# Altium schematic symbol library Analog_DAC.SchLib: 156 symbols (part 2 of 2)
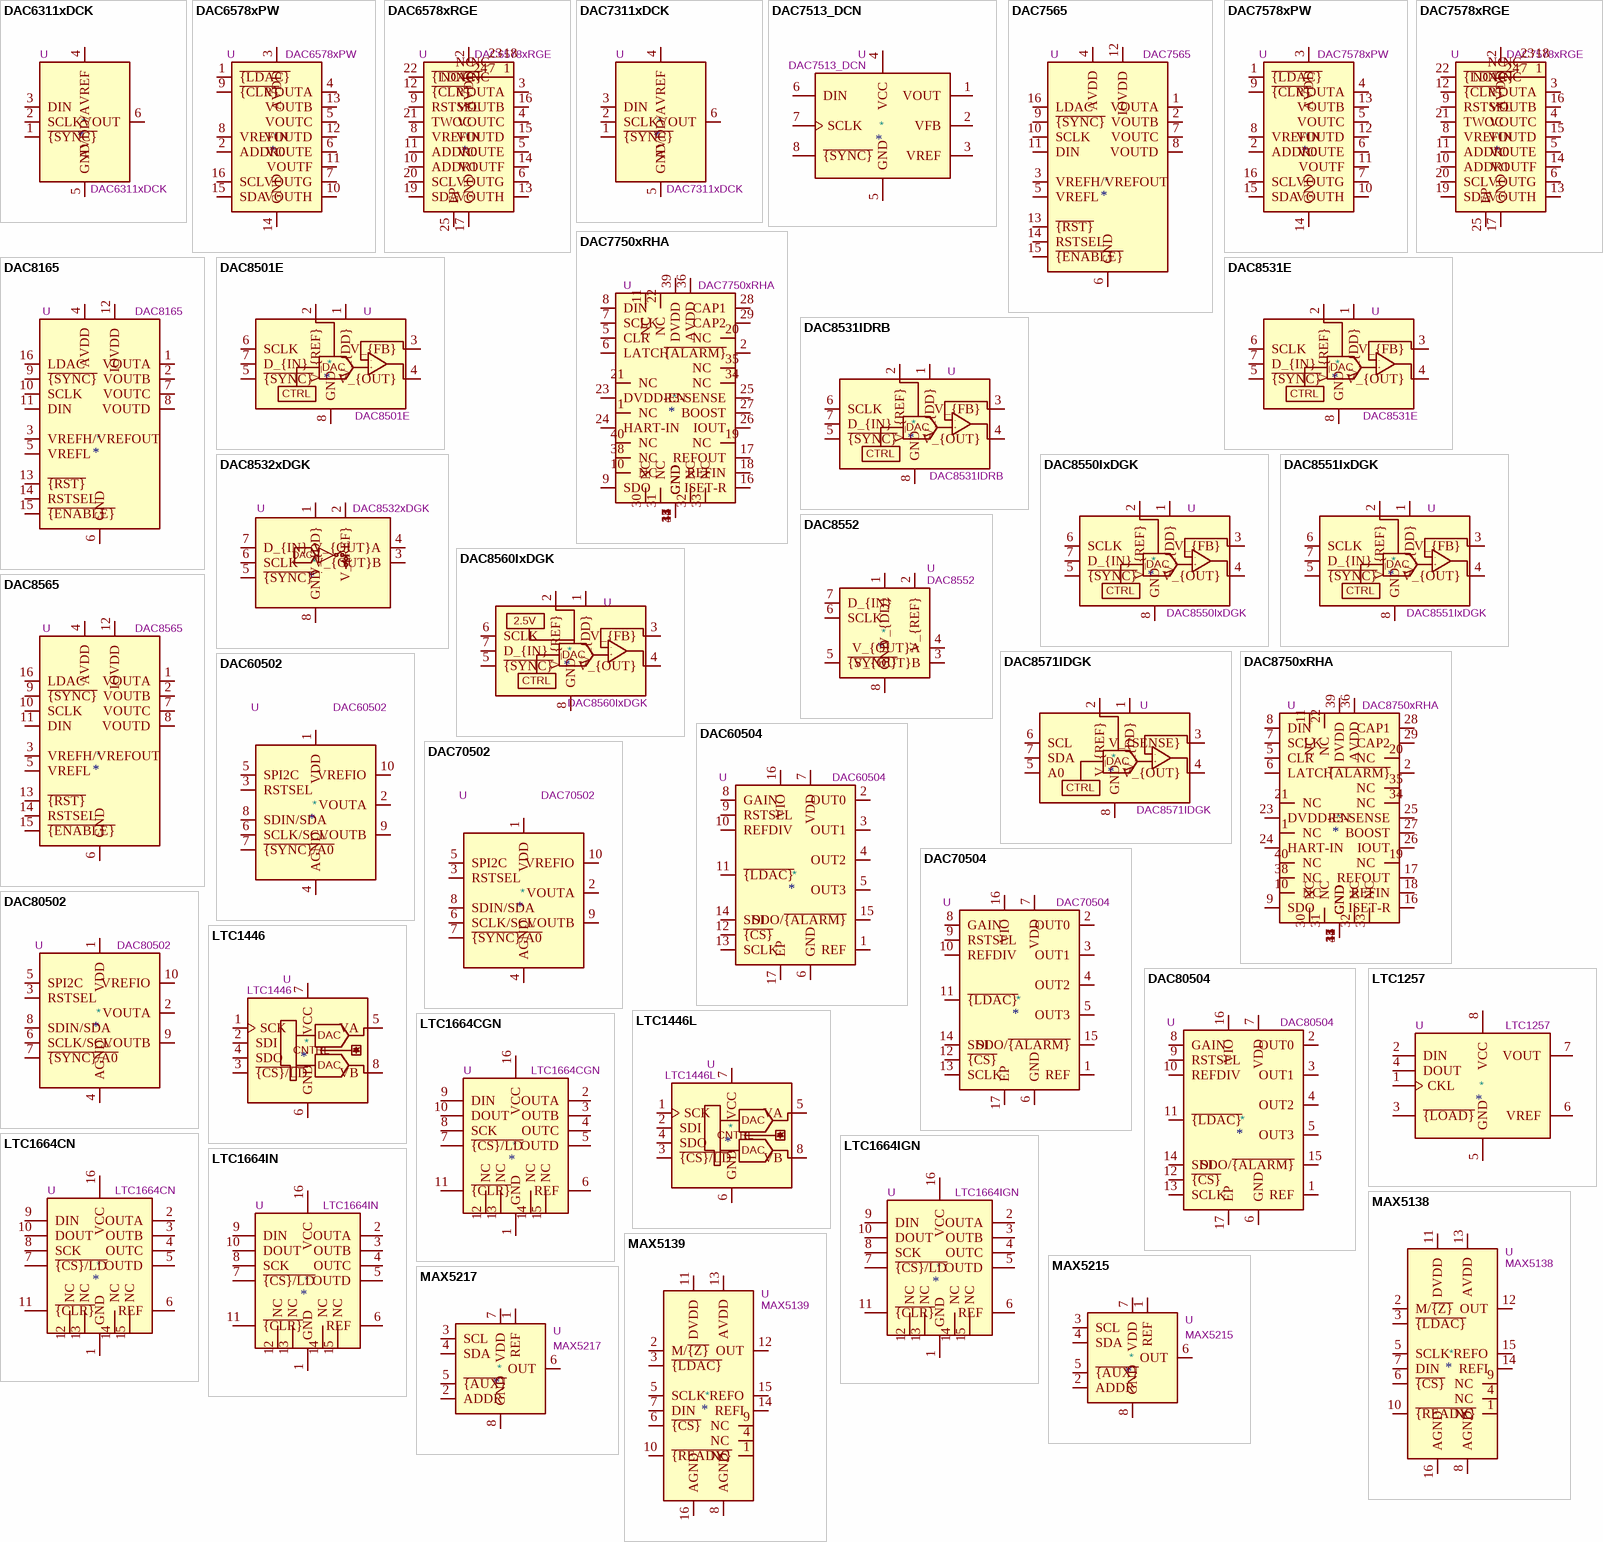
[diagram p6: symbols DAC6311xDCK to MAX5217]

## DAC8552
designator *  value DAC8552  Reference: U
Digital to analog converter, 16 Bit, 2 ch, ultra-low glitch, 2.7 - 5.5 VDD, MSOP-8; ki_keywords: Texas dual DAC; ki_fp_filters: *S?PDSO?G8*3x3mm*P0.65*; Footprint: Package_SO:Texas_S-PDSO-G8_3x3mm_P0.65mm; Datasheet: https://www.ti.com/lit/ds/symlink/dac8552.pdf; Description_: Digital to analog converter, 16 Bit, 2 ch, ultra-low glitch, 2.7 - 5.5 VDD, MSOP-8
pins: 1 V_{DD}, 2 V_{REF}, 3 V_{OUT}B, 4 V_{OUT}A, 5 ~{{SYNC}}, 6 SCLK, 7 D_{IN}, 8 GND

## DAC8560IxDGK
designator *  value DAC8560IxDGK  Reference: U
16-bit DAC, Voltage Output, Ultra-Low Glitch, Rail-to-Rail Output, 2.5V 2-ppm/°C Internal Reference, SPI interface, VSON-8 3x3mm package; ki_keywords: DAC 16-Bit Voltage Output Rail-to-Rail Internal Reference SPI; ki_fp_filters: VSON*3x3mm?P0.65mm*; Footprint: Package_SON:VSON-8-1EP_3x3mm_P0.65mm_EP1.65x2.4mm; Datasheet: https://www.ti.com/lit/ds/symlink/dac8560.pdf; Description_: 16-bit DAC, Voltage Output, Ultra-Low Glitch, Rail-to-Rail Output, 2.5V 2-ppm/°C Internal Reference, SPI interface, VSON-8 3x3mm package
pins: 1 V_{DD}, 2 V_{REF}, 3 V_{FB}, 4 V_{OUT}, 5 ~{{SYNC}}, 6 SCLK, 7 D_{IN}, 8 GND
text: 2.5V; DAC; +; -; CTRL

## DAC8565
designator *  value DAC8565  Reference: U
16-bit quad-channel voltage output DAC with 2.5V internal reference; ki_keywords: 16-bit quad DAC voltage reference; ki_fp_filters: TSSOP*4.4x5mm*P0.65mm*; Footprint: Package_SO:TSSOP-16_4.4x5mm_P0.65mm; Datasheet: https://www.ti.com/lit/ds/symlink/dac8565.pdf; Description_: 16-bit quad-channel voltage output DAC with 2.5V internal reference
pins: 1 VOUTA, 2 VOUTB, 3 VREFH/VREFOUT, 4 AVDD, 5 VREFL, 6 GND, 7 VOUTC, 8 VOUTD, 9 ~{{SYNC}}, 10 SCLK, 11 DIN, 12 IOVDD, 13 ~{{RST}}, 14 RSTSEL, 15 ~{{ENABLE}}, 16 LDAC

## DAC8571IDGK
designator *  value DAC8571IDGK  Reference: U
DAC, 16-Bit, Low Power, Voltage Output, Rail-to-Rail Output, I2C Interface, MSOP-8 3x3mm package; ki_keywords: DAC 16-Bit Voltage Output Rail-to-Rail I2C; ki_fp_filters: MSOP*3x3mm?P0.65mm*; Footprint: Package_SO:MSOP-8_3x3mm_P0.65mm; Datasheet: https://www.ti.com/lit/ds/symlink/dac8571.pdf; Description_: DAC, 16-Bit, Low Power, Voltage Output, Rail-to-Rail Output, I2C Interface, MSOP-8 3x3mm package
pins: 1 V_{DD}, 2 V_{REF}, 3 V_{SENSE}, 4 V_{OUT}, 5 A0, 6 SCL, 7 SDA, 8 GND
text: DAC; -; +; CTRL

## DAC8750xRHA
designator *  value DAC8750xRHA  Reference: U
Single-Channel, 16bit Programmable Current Output DAC for 4-mA to 20-mA Current Loop Applications, VQFN-40; ki_keywords: DAC Current Loop 20mA; ki_fp_filters: Texas*RHA*EP4.6x4.6mm*; Footprint: Package_DFN_QFN:Texas_RHA_VQFN-40-1EP_6x6mm_P0.5mm_EP4.6x4.6mm_ThermalVias; Datasheet: http://www.ti.com/lit/ds/symlink/dac7750.pdf; Description_: Single-Channel, 16bit Programmable Current Output DAC for 4-mA to 20-mA Current Loop Applications, VQFN-40
pins: 1 NC, 2 ~{{ALARM}}, 3 GND, 4 GND, 5 CLR, 6 LATCH, 7 SCLK, 8 DIN, 9 SDO, 10 NC, 11 NC, 12 GND, 13 GND, 14 GND, 15 GND, 16 ISET-R, 17 REFOUT, 18 REFIN, 19 NC, 20 NC, 21 NC, 22 NC, 23 DVDD-EN, 24 HART-IN, 25 R3-SENSE, 26 IOUT, 27 BOOST, 28 CAP1, 29 CAP2, 30 NC, 31 NC, 32 NC, 33 NC, 34 NC, 35 NC, 36 AVDD, 37 GND, 38 NC, 39 DVDD, 40 NC, 41 GND

## DAC60502
designator *  value DAC60502  Reference: U
12-bit dual-channel voltage output DAC, 2.5V 5ppm/°C internal reference, WSON-10; ki_keywords: texas digital-analog converter; ki_fp_filters: Texas*2.5x2.5mm*P0.5mm*; Footprint: Package_SON:Texas_DRX_WSON-10_2.5x2.5mm_P0.5mm; Datasheet: https://www.ti.com/lit/ds/symlink/dac80502.pdf; Description_: 12-bit dual-channel voltage output DAC, 2.5V 5ppm/°C internal reference, WSON-10
pins: 1 VDD, 2 VOUTA, 3 RSTSEL, 4 AGND, 5 SPI2C, 6 SCLK/SCL, 7 ~{{SYNC}/A0}, 8 SDIN/SDA, 9 VOUTB, 10 VREFIO

## DAC60504
designator *  value DAC60504  Reference: U
12-bit quad-channel voltage output DAC, 2.5V 2ppm/°C internal reference, WQFN-16; ki_keywords: texas quad digital-analog converter; ki_fp_filters: Texas*RTE0016D*WQFN*16*EP0.8x0.8mm*; Footprint: Package_DFN_QFN:Texas_RTE0016D_WQFN-16-1EP_3x3mm_P0.5mm_EP0.8x0.8mm_ThermalVias; Datasheet: https://www.ti.com/lit/gpn/dac60504; Description_: 12-bit quad-channel voltage output DAC, 2.5V 2ppm/°C internal reference, WQFN-16
pins: 1 REF, 2 OUT0, 3 OUT1, 4 OUT2, 5 OUT3, 6 GND, 7 VDD, 8 GAIN, 9 RSTSEL, 10 REFDIV, 11 ~{{LDAC}}, 12 ~{{CS}}, 13 SCLK, 14 SDI, 15 SDO/~{{ALARM}}, 16 VIO, 17 EP

## DAC70502
designator *  value DAC70502  Reference: U
14-bit dual-channel voltage output DAC, 2.5V 5ppm/°C internal reference, WSON-10; ki_keywords: texas digital-analog converter; ki_fp_filters: Texas*2.5x2.5mm*P0.5mm*; Footprint: Package_SON:Texas_DRX_WSON-10_2.5x2.5mm_P0.5mm; Datasheet: https://www.ti.com/lit/ds/symlink/dac80502.pdf; Description_: 14-bit dual-channel voltage output DAC, 2.5V 5ppm/°C internal reference, WSON-10
pins: 1 VDD, 2 VOUTA, 3 RSTSEL, 4 AGND, 5 SPI2C, 6 SCLK/SCL, 7 ~{{SYNC}/A0}, 8 SDIN/SDA, 9 VOUTB, 10 VREFIO

## DAC70504
designator *  value DAC70504  Reference: U
14-bit quad-channel voltage output DAC, 2.5V 2ppm/°C internal reference, WQFN-16; ki_keywords: texas quad digital-analog converter; ki_fp_filters: Texas*RTE0016D*WQFN*16*EP0.8x0.8mm*; Footprint: Package_DFN_QFN:Texas_RTE0016D_WQFN-16-1EP_3x3mm_P0.5mm_EP0.8x0.8mm_ThermalVias; Datasheet: https://www.ti.com/lit/gpn/dac70504; Description_: 14-bit quad-channel voltage output DAC, 2.5V 2ppm/°C internal reference, WQFN-16
pins: 1 REF, 2 OUT0, 3 OUT1, 4 OUT2, 5 OUT3, 6 GND, 7 VDD, 8 GAIN, 9 RSTSEL, 10 REFDIV, 11 ~{{LDAC}}, 12 ~{{CS}}, 13 SCLK, 14 SDI, 15 SDO/~{{ALARM}}, 16 VIO, 17 EP

## DAC80502
designator *  value DAC80502  Reference: U
16-bit dual-channel voltage output DAC, 2.5V 5ppm/°C internal reference, WSON-10; ki_keywords: texas digital-analog converter; ki_fp_filters: Texas*2.5x2.5mm*P0.5mm*; Footprint: Package_SON:Texas_DRX_WSON-10_2.5x2.5mm_P0.5mm; Datasheet: https://www.ti.com/lit/ds/symlink/dac80502.pdf; Description_: 16-bit dual-channel voltage output DAC, 2.5V 5ppm/°C internal reference, WSON-10
pins: 1 VDD, 2 VOUTA, 3 RSTSEL, 4 AGND, 5 SPI2C, 6 SCLK/SCL, 7 ~{{SYNC}/A0}, 8 SDIN/SDA, 9 VOUTB, 10 VREFIO

## DAC80504
designator *  value DAC80504  Reference: U
16-bit quad-channel voltage output DAC, 2.5V 2ppm/°C internal reference, WQFN-16; ki_keywords: texas quad digital-analog converter; ki_fp_filters: Texas*RTE0016D*WQFN*16*EP0.8x0.8mm*; Footprint: Package_DFN_QFN:Texas_RTE0016D_WQFN-16-1EP_3x3mm_P0.5mm_EP0.8x0.8mm_ThermalVias; Datasheet: https://www.ti.com/lit/ds/symlink/dac80504.pdf; Description_: 16-bit quad-channel voltage output DAC, 2.5V 2ppm/°C internal reference, WQFN-16
pins: 1 REF, 2 OUT0, 3 OUT1, 4 OUT2, 5 OUT3, 6 GND, 7 VDD, 8 GAIN, 9 RSTSEL, 10 REFDIV, 11 ~{{LDAC}}, 12 ~{{CS}}, 13 SCLK, 14 SDI, 15 SDO/~{{ALARM}}, 16 VIO, 17 EP

## LTC1257
designator *  value LTC1257  Reference: U
Single Supply 12-bit DAC with Internal Reference Voltage, SOIC-8; ki_keywords: DAC 12-bit; ki_fp_filters: SOIC*; Datasheet: https://www.analog.com/media/en/technical-documentation/data-sheets/1257fc.pdf; Description_: Single Supply 12-bit DAC with Internal Reference Voltage, SOIC-8
pins: 1 CKL, 2 DIN, 3 ~{{LOAD}}, 4 DOUT, 5 GND, 6 VREF, 7 VOUT, 8 VCC

## LTC1446
designator *  value LTC1446  Reference: U
2-Channel 12-Bit Rail-To-Rail D/A Converters with SPI Interface and Internal Reference (4.096V); ki_keywords: 12-Bit DAC SPI Reference 2ch; ki_fp_filters: DIP*W7.62mm* SOIC*3.9x4.9mm*P1.27mm*; Datasheet: https://www.analog.com/media/en/technical-documentation/data-sheets/1446fa.pdf; Description_: 2-Channel 12-Bit Rail-To-Rail D/A Converters with SPI Interface and Internal Reference (4.096V)
pins: 1 SCK, 2 SDI, 3 ~{{CS}/LD}, 4 SDO, 5 VA, 6 GND, 7 VCC, 8 VB
text: DAC; CNTRL

## LTC1446L
designator *  value LTC1446L  Reference: U
2-Channel 12-Bit Rail-To-Rail D/A Converters with SPI Interface and Internal Reference (2.500V); ki_keywords: 12-Bit DAC SPI 2ch; ki_fp_filters: DIP*W7.62mm* SOIC*3.9x4.9mm*P1.27mm*; Datasheet: https://www.analog.com/media/en/technical-documentation/data-sheets/1446fa.pdf; Description_: 2-Channel 12-Bit Rail-To-Rail D/A Converters with SPI Interface and Internal Reference (2.500V)
pins: 1 SCK, 2 SDI, 3 ~{{CS}/LD}, 4 SDO, 5 VA, 6 GND, 7 VCC, 8 VB
text: DAC; CNTRL

## LTC1664CGN
designator *  value LTC1664CGN  Reference: U
Quad Micropower 10-bit DAC, Standard, SSOP-16; ki_keywords: Quad DAC Micropower 10bit 4ch; ki_fp_filters: *SSOP*; Datasheet: https://www.analog.com/media/en/technical-documentation/data-sheets/1664fa.pdf; Description_: Quad Micropower 10-bit DAC, Standard, SSOP-16
pins: 1 GND, 2 OUTA, 3 OUTB, 4 OUTC, 5 OUTD, 6 REF, 7 ~{{CS}/LD}, 8 SCK, 9 DIN, 10 DOUT, 11 ~{{CLR}}, 12 NC, 13 NC, 14 NC, 15 NC, 16 VCC

## LTC1664CN
designator *  value LTC1664CN  Reference: U
Quad Micropower 10-bit DAC, Standard, DIP-16; ki_keywords: Quad DAC Micropower 10bit 4ch; ki_fp_filters: *SSOP*; Datasheet: https://www.analog.com/media/en/technical-documentation/data-sheets/1664fa.pdf; Description_: Quad Micropower 10-bit DAC, Standard, DIP-16
pins: 1 GND, 2 OUTA, 3 OUTB, 4 OUTC, 5 OUTD, 6 REF, 7 ~{{CS}/LD}, 8 SCK, 9 DIN, 10 DOUT, 11 ~{{CLR}}, 12 NC, 13 NC, 14 NC, 15 NC, 16 VCC

## LTC1664IGN
designator *  value LTC1664IGN  Reference: U
Quad Micropower 10-bit DAC, Industrial, SSOP-16; ki_keywords: Quad DAC Micropower 10bit 4ch; ki_fp_filters: *SSOP*; Datasheet: https://www.analog.com/media/en/technical-documentation/data-sheets/1664fa.pdf; Description_: Quad Micropower 10-bit DAC, Industrial, SSOP-16
pins: 1 GND, 2 OUTA, 3 OUTB, 4 OUTC, 5 OUTD, 6 REF, 7 ~{{CS}/LD}, 8 SCK, 9 DIN, 10 DOUT, 11 ~{{CLR}}, 12 NC, 13 NC, 14 NC, 15 NC, 16 VCC

## LTC1664IN
designator *  value LTC1664IN  Reference: U
Quad Micropower 10-bit DAC, Industrial, DIP-16; ki_keywords: Quad DAC Micropower 10bit 4ch; ki_fp_filters: *SSOP*; Datasheet: https://www.analog.com/media/en/technical-documentation/data-sheets/1664fa.pdf; Description_: Quad Micropower 10-bit DAC, Industrial, DIP-16
pins: 1 GND, 2 OUTA, 3 OUTB, 4 OUTC, 5 OUTD, 6 REF, 7 ~{{CS}/LD}, 8 SCK, 9 DIN, 10 DOUT, 11 ~{{CLR}}, 12 NC, 13 NC, 14 NC, 15 NC, 16 VCC

## MAX5138
designator *  value MAX5138  Reference: U
Low-Power, Single, 16-Bit, Buffered Voltage-Output DAC; ki_keywords: 16-bit DAC 1CH; ki_fp_filters: TQFN*1EP*3x3mm*P0.5mm*; Footprint: Package_DFN_QFN:TQFN-16-1EP_3x3mm_P0.5mm_EP1.23x1.23mm; Datasheet: https://datasheets.maximintegrated.com/en/ds/MAX5138-MAX5139.pdf; Description_: Low-Power, Single, 16-Bit, Buffered Voltage-Output DAC
pins: 1 NC, 2 M/~{{Z}}, 3 ~{{LDAC}}, 4 NC, 5 SCLK, 6 ~{{CS}}, 7 DIN, 8 AGND, 9 NC, 10 ~{{READY}}, 11 DVDD, 12 OUT, 13 AVDD, 14 REFI, 15 REFO, 16 AGND

## MAX5139
designator *  value MAX5139  Reference: U
Low-Power, Single, 12-Bit, Buffered Voltage-Output DAC; ki_keywords: 12-bit DAC 1CH; ki_fp_filters: TQFN*1EP*3x3mm*P0.5mm*; Footprint: Package_DFN_QFN:TQFN-16-1EP_3x3mm_P0.5mm_EP1.23x1.23mm; Datasheet: https://datasheets.maximintegrated.com/en/ds/MAX5138-MAX5139.pdf; Description_: Low-Power, Single, 12-Bit, Buffered Voltage-Output DAC
pins: 1 NC, 2 M/~{{Z}}, 3 ~{{LDAC}}, 4 NC, 5 SCLK, 6 ~{{CS}}, 7 DIN, 8 AGND, 9 NC, 10 ~{{READY}}, 11 DVDD, 12 OUT, 13 AVDD, 14 REFI, 15 REFO, 16 AGND

## MAX5215
designator *  value MAX5215  Reference: U
Digital to analog, 14 Bit, 1 ch, 2.7 - 5.5 VDD, I2C, uMAX-8; ki_keywords: DA 14 Bit 1 ch; ki_fp_filters: MSOP*3x3mm*P0.65mm*; Footprint: Package_SO:MSOP-8_3x3mm_P0.65mm; Datasheet: https://datasheets.maximintegrated.com/en/ds/MAX5215-MAX5217.pdf; Description_: Digital to analog, 14 Bit, 1 ch, 2.7 - 5.5 VDD, I2C, uMAX-8
pins: 1 REF, 2 ADDR, 3 SCL, 4 SDA, 5 ~{{AUX}}, 6 OUT, 7 VDD, 8 GND

## MAX5217
designator *  value MAX5217  Reference: U
Digital to analog, 16 Bit, 1 ch, 2.7 - 5.5 VDD, I2C, uMAX-8; ki_keywords: DA 16 Bit 1 ch; ki_fp_filters: MSOP*3x3mm*P0.65mm*; Footprint: Package_SO:MSOP-8_3x3mm_P0.65mm; Datasheet: https://datasheets.maximintegrated.com/en/ds/MAX5215-MAX5217.pdf; Description_: Digital to analog, 16 Bit, 1 ch, 2.7 - 5.5 VDD, I2C, uMAX-8
pins: 1 REF, 2 ADDR, 3 SCL, 4 SDA, 5 ~{{AUX}}, 6 OUT, 7 VDD, 8 GND

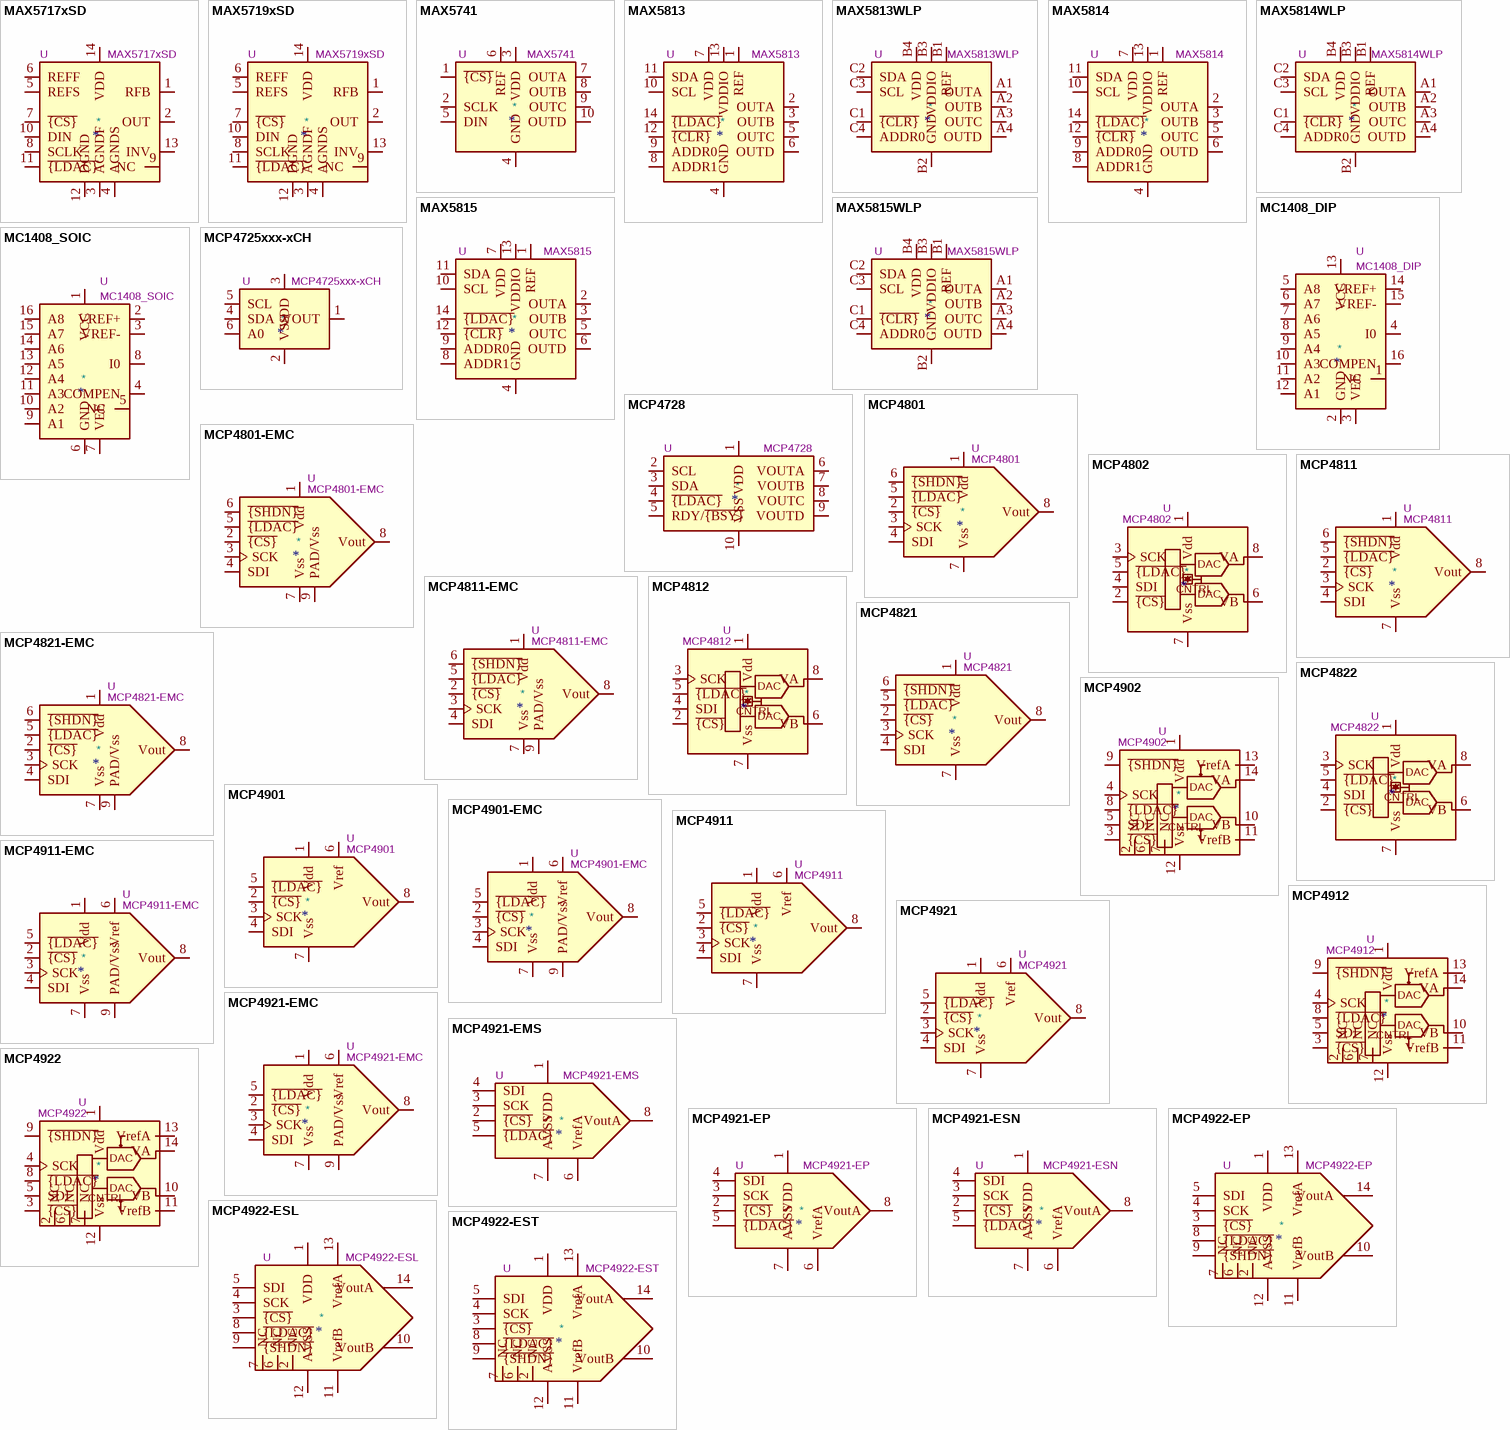
[diagram p4: symbols MAX5717xSD to MCP4922-EST]

## MAX5717xSD
designator *  value MAX5717xSD  Reference: U
16-bit Voltage Digital-to-Analog converter, SOIC-14; ki_keywords: DAC; ki_fp_filters: SOIC*3.9x8.7mm*P1.27mm*; Footprint: Package_SO:SOIC-14_3.9x8.7mm_P1.27mm; Datasheet: https://datasheets.maximintegrated.com/en/ds/MAX5717-MAX5719.pdf; Description_: 16-bit Voltage Digital-to-Analog converter, SOIC-14
pins: 1 RFB, 2 OUT, 3 AGNDF, 4 AGNDS, 5 REFS, 6 REFF, 7 ~{{CS}}, 8 SCLK, 9 NC, 10 DIN, 11 ~{{LDAC}}, 12 DGND, 13 INV, 14 VDD

## MAX5719xSD
designator *  value MAX5719xSD  Reference: U
20-bit Voltage Digital-to-Analog converter, SOIC-14; ki_keywords: DAC; ki_fp_filters: SOIC*3.9x8.7mm*P1.27mm*; Footprint: Package_SO:SOIC-14_3.9x8.7mm_P1.27mm; Datasheet: https://datasheets.maximintegrated.com/en/ds/MAX5717-MAX5719.pdf; Description_: 20-bit Voltage Digital-to-Analog converter, SOIC-14
pins: 1 RFB, 2 OUT, 3 AGNDF, 4 AGNDS, 5 REFS, 6 REFF, 7 ~{{CS}}, 8 SCLK, 9 NC, 10 DIN, 11 ~{{LDAC}}, 12 DGND, 13 INV, 14 VDD

## MAX5741
designator *  value MAX5741  Reference: U
Digital to analog, 10 Bit, 4 ch, 2.7 - 5.5 VDD, SPI, uMAX-10; ki_keywords: DA 8 Bit 4 ch; ki_fp_filters: MSOP*3x3mm?P0.5mm*; Footprint: Package_SO:MSOP-10_3x3mm_P0.5mm; Datasheet: https://datasheets.maximintegrated.com/en/ds/MAX5741.pdf; Description_: Digital to analog, 10 Bit, 4 ch, 2.7 - 5.5 VDD, SPI, uMAX-10
pins: 1 ~{{CS}}, 2 SCLK, 3 VDD, 4 GND, 5 DIN, 6 REF, 7 OUTA, 8 OUTB, 9 OUTC, 10 OUTD

## MAX5813
designator *  value MAX5813  Reference: U
Digital to analog, 8 Bit, 4 ch, 2.7 - 5.5 VDD, I2C, TSSOP-14; ki_keywords: DA 8 Bit 4 ch; ki_fp_filters: *TSSOP*14*4.4*; Datasheet: http://datasheets.maximintegrated.com/en/ds/MAX5813-MAX5815.pdf; Description_: Digital to analog, 8 Bit, 4 ch, 2.7 - 5.5 VDD, I2C, TSSOP-14
pins: 1 REF, 2 OUTA, 3 OUTB, 4 GND, 5 OUTC, 6 OUTD, 7 VDD, 8 ADDR1, 9 ADDR0, 10 SCL, 11 SDA, 12 ~{{CLR}}, 13 VDDIO, 14 ~{{LDAC}}

## MAX5813WLP
designator *  value MAX5813WLP  Reference: U
Digital to analog, 8 Bit, 4 ch, 2.7 - 5.5 VDD, I2C, TSSOP-14, Maxim_WLP-12; ki_keywords: DA 8 Bit 4 ch; ki_fp_filters: *Maxim*WLP*12*; Datasheet: http://datasheets.maximintegrated.com/en/ds/MAX5813-MAX5815.pdf; Description_: Digital to analog, 8 Bit, 4 ch, 2.7 - 5.5 VDD, I2C, TSSOP-14, Maxim_WLP-12
pins: A1 OUTA, A2 OUTB, A3 OUTC, A4 OUTD, B1 REF, B2 GND, B3 VDDIO, B4 VDD, C1 ~{{CLR}}, C2 SDA, C3 SCL, C4 ADDR0

## MAX5814
designator *  value MAX5814  Reference: U
Digital to analog, 10 Bit, 4 ch, 2.7 - 5.5 VDD, I2C, TSSOP-14; ki_keywords: DA 10 Bit 4 ch; ki_fp_filters: *TSSOP*14*4.4*; Datasheet: http://datasheets.maximintegrated.com/en/ds/MAX5813-MAX5815.pdf; Description_: Digital to analog, 10 Bit, 4 ch, 2.7 - 5.5 VDD, I2C, TSSOP-14
pins: 1 REF, 2 OUTA, 3 OUTB, 4 GND, 5 OUTC, 6 OUTD, 7 VDD, 8 ADDR1, 9 ADDR0, 10 SCL, 11 SDA, 12 ~{{CLR}}, 13 VDDIO, 14 ~{{LDAC}}

## MAX5814WLP
designator *  value MAX5814WLP  Reference: U
Digital to analog, 10 Bit, 4 ch, 2.7 - 5.5 VDD, I2C, TSSOP-14, Maxim_WLP-12; ki_keywords: DA 10 Bit 4 ch; ki_fp_filters: *Maxim*WLP*12*; Datasheet: http://datasheets.maximintegrated.com/en/ds/MAX5813-MAX5815.pdf; Description_: Digital to analog, 10 Bit, 4 ch, 2.7 - 5.5 VDD, I2C, TSSOP-14, Maxim_WLP-12
pins: A1 OUTA, A2 OUTB, A3 OUTC, A4 OUTD, B1 REF, B2 GND, B3 VDDIO, B4 VDD, C1 ~{{CLR}}, C2 SDA, C3 SCL, C4 ADDR0

## MAX5815
designator *  value MAX5815  Reference: U
Digital to analog, 12 Bit, 4 ch, 2.7 - 5.5 VDD, I2C, TSSOP-14; ki_keywords: DA 12 Bit 4 ch; ki_fp_filters: *TSSOP*14*4.4*; Datasheet: http://datasheets.maximintegrated.com/en/ds/MAX5813-MAX5815.pdf; Description_: Digital to analog, 12 Bit, 4 ch, 2.7 - 5.5 VDD, I2C, TSSOP-14
pins: 1 REF, 2 OUTA, 3 OUTB, 4 GND, 5 OUTC, 6 OUTD, 7 VDD, 8 ADDR1, 9 ADDR0, 10 SCL, 11 SDA, 12 ~{{CLR}}, 13 VDDIO, 14 ~{{LDAC}}

## MAX5815WLP
designator *  value MAX5815WLP  Reference: U
Digital to analog, 12 Bit, 4 ch, 2.7 - 5.5 VDD, I2C, TSSOP-14, Maxim_WLP-12; ki_keywords: DA 12 Bit 4 ch; ki_fp_filters: *Maxim*WLP*12*; Datasheet: http://datasheets.maximintegrated.com/en/ds/MAX5813-MAX5815.pdf; Description_: Digital to analog, 12 Bit, 4 ch, 2.7 - 5.5 VDD, I2C, TSSOP-14, Maxim_WLP-12
pins: A1 OUTA, A2 OUTB, A3 OUTC, A4 OUTD, B1 REF, B2 GND, B3 VDDIO, B4 VDD, C1 ~{{CLR}}, C2 SDA, C3 SCL, C4 ADDR0

## MC1408_DIP
designator *  value MC1408_DIP  Reference: U
8-bit multiplying DAC; ki_keywords: 8 bit multiplying DAC; ki_fp_filters: DIP*W7.62mm*; Footprint: Package_DIP:DIP-16_W7.62mm; Datasheet: http://www.pinballpcb.com/datasheets/OnMC1408-dac.pdf; Description_: 8-bit multiplying DAC
pins: 1 NC, 2 GND, 3 VEE, 4 I0, 5 A8, 6 A7, 7 A6, 8 A5, 9 A4, 10 A3, 11 A2, 12 A1, 13 VCC, 14 VREF+, 15 VREF-, 16 COMPEN

## MC1408_SOIC
designator *  value MC1408_SOIC  Reference: U
8-bit multiplying DAC; ki_keywords: 8 bit multiplying DAC; ki_fp_filters: SOIC*3.9x9.9mm*P1.27mm*; Footprint: Package_SO:SOIC-16_3.9x9.9mm_P1.27mm; Datasheet: http://www.pinballpcb.com/datasheets/OnMC1408-dac.pdf; Description_: 8-bit multiplying DAC
pins: 1 VCC, 2 VREF+, 3 VREF-, 4 COMPEN, 5 NC, 6 GND, 7 VEE, 8 I0, 9 A1, 10 A2, 11 A3, 12 A4, 13 A5, 14 A6, 15 A7, 16 A8

## MCP4725xxx-xCH
designator *  value MCP4725xxx-xCH  Reference: U
12-bit Digital-to-Analog Converter, integrated EEPROM, I2C interface, SOT-23-6; ki_keywords: dac twi; ki_fp_filters: SOT?23*; Footprint: Package_TO_SOT_SMD:SOT-23-6; Datasheet: http://ww1.microchip.com/downloads/en/DeviceDoc/22039d.pdf; Description_: 12-bit Digital-to-Analog Converter, integrated EEPROM, I2C interface, SOT-23-6
pins: 1 VOUT, 2 VSS, 3 VDD, 4 SDA, 5 SCL, 6 A0

## MCP4728
designator *  value MCP4728  Reference: U
12-bit digital to analog converter, quad output, 2.048V internal reference, integrated EEPROM, I2C interface; ki_keywords: dac i2c; ki_fp_filters: *SOP*3x3mm*P0.5mm*; Footprint: Package_SO:MSOP-10_3x3mm_P0.5mm; Datasheet: http://ww1.microchip.com/downloads/en/DeviceDoc/22187E.pdf; Description_: 12-bit digital to analog converter, quad output, 2.048V internal reference, integrated EEPROM, I2C interface
pins: 1 VDD, 2 SCL, 3 SDA, 4 ~{{LDAC}}, 5 RDY/~{{BSY}}, 6 VOUTA, 7 VOUTB, 8 VOUTC, 9 VOUTD, 10 VSS

## MCP4801
designator *  value MCP4801  Reference: U
8-Bit D/A Converters with SPI Interface, internal Reference (2.048V); ki_keywords: 8-Bit DAC SPI Reference 1ch; ki_fp_filters: DIP*W7.62mm* MSOP*3x3mm*P0.65mm* SOIC*3.9x4.9mm*P1.27mm*; Datasheet: http://ww1.microchip.com/downloads/en/DeviceDoc/22244B.pdf; Description_: 8-Bit D/A Converters with SPI Interface, internal Reference (2.048V)
pins: 1 Vdd, 2 ~{{CS}}, 3 SCK, 4 SDI, 5 ~{{LDAC}}, 6 ~{{SHDN}}, 7 Vss, 8 Vout

## MCP4801-EMC
designator *  value MCP4801-EMC  Reference: U
8-Bit D/A Converters with SPI Interface, internal Reference (2.048V); ki_keywords: 8-Bit DAC SPI Reference 1ch; ki_fp_filters: DFN*1EP*3x2mm*P0.5mm*; Footprint: Package_DFN_QFN:DFN-8-1EP_3x2mm_P0.5mm_EP1.75x1.45mm; Datasheet: http://ww1.microchip.com/downloads/en/DeviceDoc/22244B.pdf; Description_: 8-Bit D/A Converters with SPI Interface, internal Reference (2.048V)
pins: 1 Vdd, 2 ~{{CS}}, 3 SCK, 4 SDI, 5 ~{{LDAC}}, 6 ~{{SHDN}}, 7 Vss, 8 Vout, 9 PAD/Vss

## MCP4802
designator *  value MCP4802  Reference: U
2-Channel 8-Bit D/A Converters with SPI Interface and Internal Reference (2.048V); ki_keywords: 8-Bit DAC SPI Reference 2ch; ki_fp_filters: DIP*W7.62mm* SOIC*3.9x4.9mm*P1.27mm* MSOP*3x3mm*P0.65mm*; Datasheet: http://ww1.microchip.com/downloads/en/DeviceDoc/20002249B.pdf; Description_: 2-Channel 8-Bit D/A Converters with SPI Interface and Internal Reference (2.048V)
pins: 1 Vdd, 2 ~{{CS}}, 3 SCK, 4 SDI, 5 ~{{LDAC}}, 6 VB, 7 Vss, 8 VA
text: DAC; CNTRL

## MCP4811
designator *  value MCP4811  Reference: U
10-Bit D/A Converters with SPI Interface, internal Reference (2.048V); ki_keywords: 10-Bit DAC SPI Reference 1ch; ki_fp_filters: DIP*W7.62mm* MSOP*3x3mm*P0.65mm* SOIC*3.9x4.9mm*P1.27mm*; Datasheet: http://ww1.microchip.com/downloads/en/DeviceDoc/22244B.pdf; Description_: 10-Bit D/A Converters with SPI Interface, internal Reference (2.048V)
pins: 1 Vdd, 2 ~{{CS}}, 3 SCK, 4 SDI, 5 ~{{LDAC}}, 6 ~{{SHDN}}, 7 Vss, 8 Vout

## MCP4811-EMC
designator *  value MCP4811-EMC  Reference: U
10-Bit D/A Converters with SPI Interface, internal Reference (2.048V); ki_keywords: 10-Bit DAC SPI Reference 1ch; ki_fp_filters: DFN*1EP*3x2mm*P0.5mm*; Footprint: Package_DFN_QFN:DFN-8-1EP_3x2mm_P0.5mm_EP1.75x1.45mm; Datasheet: http://ww1.microchip.com/downloads/en/DeviceDoc/22244B.pdf; Description_: 10-Bit D/A Converters with SPI Interface, internal Reference (2.048V)
pins: 1 Vdd, 2 ~{{CS}}, 3 SCK, 4 SDI, 5 ~{{LDAC}}, 6 ~{{SHDN}}, 7 Vss, 8 Vout, 9 PAD/Vss

## MCP4812
designator *  value MCP4812  Reference: U
2-Channel 10-Bit D/A Converters with SPI Interface and Internal Reference (2.048V); ki_keywords: 10-Bit DAC SPI Reference 2ch; ki_fp_filters: DIP*W7.62mm* SOIC*3.9x4.9mm*P1.27mm* MSOP*3x3mm*P0.65mm*; Datasheet: http://ww1.microchip.com/downloads/en/DeviceDoc/20002249B.pdf; Description_: 2-Channel 10-Bit D/A Converters with SPI Interface and Internal Reference (2.048V)
pins: 1 Vdd, 2 ~{{CS}}, 3 SCK, 4 SDI, 5 ~{{LDAC}}, 6 VB, 7 Vss, 8 VA
text: DAC; CNTRL

## MCP4821
designator *  value MCP4821  Reference: U
12-Bit D/A Converters with SPI Interface, internal Reference (2.048V); ki_keywords: 12-Bit DAC SPI Reference 1ch; ki_fp_filters: DIP*W7.62mm* MSOP*3x3mm*P0.65mm* SOIC*3.9x4.9mm*P1.27mm*; Datasheet: http://ww1.microchip.com/downloads/en/DeviceDoc/22244B.pdf; Description_: 12-Bit D/A Converters with SPI Interface, internal Reference (2.048V)
pins: 1 Vdd, 2 ~{{CS}}, 3 SCK, 4 SDI, 5 ~{{LDAC}}, 6 ~{{SHDN}}, 7 Vss, 8 Vout

## MCP4821-EMC
designator *  value MCP4821-EMC  Reference: U
12-Bit D/A Converters with SPI Interface, internal Reference (2.048V); ki_keywords: 12-Bit DAC SPI Reference 1ch; ki_fp_filters: DFN*1EP*3x2mm*P0.5mm*; Footprint: Package_DFN_QFN:DFN-8-1EP_3x2mm_P0.5mm_EP1.75x1.45mm; Datasheet: http://ww1.microchip.com/downloads/en/DeviceDoc/22244B.pdf; Description_: 12-Bit D/A Converters with SPI Interface, internal Reference (2.048V)
pins: 1 Vdd, 2 ~{{CS}}, 3 SCK, 4 SDI, 5 ~{{LDAC}}, 6 ~{{SHDN}}, 7 Vss, 8 Vout, 9 PAD/Vss

## MCP4822
designator *  value MCP4822  Reference: U
2-Channel 12-Bit D/A Converters with SPI Interface and Internal Reference (2.048V); ki_keywords: 12-Bit DAC SPI Reference 2ch; ki_fp_filters: DIP*W7.62mm* SOIC*3.9x4.9mm*P1.27mm* MSOP*3x3mm*P0.65mm*; Datasheet: http://ww1.microchip.com/downloads/en/DeviceDoc/20002249B.pdf; Description_: 2-Channel 12-Bit D/A Converters with SPI Interface and Internal Reference (2.048V)
pins: 1 Vdd, 2 ~{{CS}}, 3 SCK, 4 SDI, 5 ~{{LDAC}}, 6 VB, 7 Vss, 8 VA
text: DAC; CNTRL

## MCP4901
designator *  value MCP4901  Reference: U
8-Bit D/A Converters with SPI Interface; ki_keywords: 8-Bit DAC SPI  1ch; ki_fp_filters: DIP*W7.62mm* MSOP*3x3mm*P0.65mm* SOIC*3.9x4.9mm*P1.27mm*; Datasheet: http://ww1.microchip.com/downloads/en/DeviceDoc/22248a.pdf; Description_: 8-Bit D/A Converters with SPI Interface
pins: 1 Vdd, 2 ~{{CS}}, 3 SCK, 4 SDI, 5 ~{{LDAC}}, 6 Vref, 7 Vss, 8 Vout

## MCP4901-EMC
designator *  value MCP4901-EMC  Reference: U
8-Bit D/A Converters with SPI Interface; ki_keywords: 8-Bit DAC SPI  1ch; ki_fp_filters: DFN*1EP*3x2mm*P0.5mm*; Footprint: Package_DFN_QFN:DFN-8-1EP_3x2mm_P0.5mm_EP1.75x1.45mm; Datasheet: http://ww1.microchip.com/downloads/en/DeviceDoc/22248a.pdf; Description_: 8-Bit D/A Converters with SPI Interface
pins: 1 Vdd, 2 ~{{CS}}, 3 SCK, 4 SDI, 5 ~{{LDAC}}, 6 Vref, 7 Vss, 8 Vout, 9 PAD/Vss

## MCP4902
designator *  value MCP4902  Reference: U
2-Channel 8-Bit D/A Converters with SPI Interface; ki_keywords: 8-Bit DAC SPI  2ch; ki_fp_filters: DIP*W7.62mm* SOIC*3.9x8.7mm*P1.27mm* TSSOP*4.4x5mm*P0.65mm*; Datasheet: http://ww1.microchip.com/downloads/en/DeviceDoc/22250A.pdf; Description_: 2-Channel 8-Bit D/A Converters with SPI Interface
pins: 1 Vdd, 2 NC, 3 ~{{CS}}, 4 SCK, 5 SDI, 6 NC, 7 NC, 8 ~{{LDAC}}, 9 ~{{SHDN}}, 10 VB, 11 VrefB, 12 Vss, 13 VrefA, 14 VA
text: DAC; CNTRL

## MCP4911
designator *  value MCP4911  Reference: U
10-Bit D/A Converters with SPI Interface; ki_keywords: 10-Bit DAC SPI 1ch; ki_fp_filters: DIP*W7.62mm* MSOP*3x3mm*P0.65mm* SOIC*3.9x4.9mm*P1.27mm*; Datasheet: http://ww1.microchip.com/downloads/en/DeviceDoc/22248a.pdf; Description_: 10-Bit D/A Converters with SPI Interface
pins: 1 Vdd, 2 ~{{CS}}, 3 SCK, 4 SDI, 5 ~{{LDAC}}, 6 Vref, 7 Vss, 8 Vout

## MCP4911-EMC
designator *  value MCP4911-EMC  Reference: U
10-Bit D/A Converters with SPI Interface; ki_keywords: 10-Bit DAC SPI  1ch; ki_fp_filters: DFN*1EP*3x2mm*P0.5mm*; Footprint: Package_DFN_QFN:DFN-8-1EP_3x2mm_P0.5mm_EP1.75x1.45mm; Datasheet: http://ww1.microchip.com/downloads/en/DeviceDoc/22248a.pdf; Description_: 10-Bit D/A Converters with SPI Interface
pins: 1 Vdd, 2 ~{{CS}}, 3 SCK, 4 SDI, 5 ~{{LDAC}}, 6 Vref, 7 Vss, 8 Vout, 9 PAD/Vss

## MCP4912
designator *  value MCP4912  Reference: U
2-Channel 10-Bit D/A Converters with SPI Interface; ki_keywords: 10-Bit DAC SPI 2ch; ki_fp_filters: DIP*W7.62mm* SOIC*3.9x8.7mm*P1.27mm* TSSOP*4.4x5mm*P0.65mm*; Datasheet: http://ww1.microchip.com/downloads/en/DeviceDoc/22250A.pdf; Description_: 2-Channel 10-Bit D/A Converters with SPI Interface
pins: 1 Vdd, 2 NC, 3 ~{{CS}}, 4 SCK, 5 SDI, 6 NC, 7 NC, 8 ~{{LDAC}}, 9 ~{{SHDN}}, 10 VB, 11 VrefB, 12 Vss, 13 VrefA, 14 VA
text: DAC; CNTRL

## MCP4921
designator *  value MCP4921  Reference: U
12-Bit D/A Converters with SPI Interface; ki_keywords: 12-Bit DAC SPI 1ch; ki_fp_filters: DIP*W7.62mm* MSOP*3x3mm*P0.65mm* SOIC*3.9x4.9mm*P1.27mm*; Datasheet: http://ww1.microchip.com/downloads/en/DeviceDoc/22248a.pdf; Description_: 12-Bit D/A Converters with SPI Interface
pins: 1 Vdd, 2 ~{{CS}}, 3 SCK, 4 SDI, 5 ~{{LDAC}}, 6 Vref, 7 Vss, 8 Vout

## MCP4921-EMC
designator *  value MCP4921-EMC  Reference: U
12-Bit D/A Converters with SPI Interface; ki_keywords: 12-Bit DAC SPI  1ch; ki_fp_filters: DFN*1EP*3x2mm*P0.5mm*; Footprint: Package_DFN_QFN:DFN-8-1EP_3x2mm_P0.5mm_EP1.75x1.45mm; Datasheet: http://ww1.microchip.com/downloads/en/DeviceDoc/22248a.pdf; Description_: 12-Bit D/A Converters with SPI Interface
pins: 1 Vdd, 2 ~{{CS}}, 3 SCK, 4 SDI, 5 ~{{LDAC}}, 6 Vref, 7 Vss, 8 Vout, 9 PAD/Vss

## MCP4921-EMS
designator *  value MCP4921-EMS  Reference: U
Single 12-bit Digital to Analog Converter, SPI Interface, MSOP-8; ki_keywords: Single DAC 1ch 12bit SPI; ki_fp_filters: MSOP* SOIC* DIP* PDIP*; Datasheet: http://ww1.microchip.com/downloads/en/devicedoc/21897a.pdf; Description_: Single 12-bit Digital to Analog Converter, SPI Interface, MSOP-8
pins: 1 VDD, 2 ~{{CS}}, 3 SCK, 4 SDI, 5 ~{{LDAC}}, 6 VrefA, 7 AVSS, 8 VoutA

## MCP4921-EP
designator *  value MCP4921-EP  Reference: U
Single 12-bit Digital to Analog Converter, SPI Interface, PDIP-8; ki_keywords: Single DAC 1ch 12bit SPI; ki_fp_filters: MSOP* SOIC* DIP* PDIP*; Datasheet: http://ww1.microchip.com/downloads/en/devicedoc/21897a.pdf; Description_: Single 12-bit Digital to Analog Converter, SPI Interface, PDIP-8
pins: 1 VDD, 2 ~{{CS}}, 3 SCK, 4 SDI, 5 ~{{LDAC}}, 6 VrefA, 7 AVSS, 8 VoutA

## MCP4921-ESN
designator *  value MCP4921-ESN  Reference: U
Single 12-bit Digital to Analog Converter, SPI Interface, SOIC-8; ki_keywords: Single DAC 1ch 12bit SPI; ki_fp_filters: MSOP* SOIC* DIP* PDIP*; Datasheet: http://ww1.microchip.com/downloads/en/devicedoc/21897a.pdf; Description_: Single 12-bit Digital to Analog Converter, SPI Interface, SOIC-8
pins: 1 VDD, 2 ~{{CS}}, 3 SCK, 4 SDI, 5 ~{{LDAC}}, 6 VrefA, 7 AVSS, 8 VoutA

## MCP4922
designator *  value MCP4922  Reference: U
2-Channel 12-Bit D/A Converters with SPI Interface; ki_keywords: 12-Bit DAC SPI 2CH; ki_fp_filters: DIP*W7.62mm* SOIC*3.9x8.7mm*P1.27mm* TSSOP*4.4x5mm*P0.65mm*; Datasheet: http://ww1.microchip.com/downloads/en/DeviceDoc/22250A.pdf; Description_: 2-Channel 12-Bit D/A Converters with SPI Interface
pins: 1 Vdd, 2 NC, 3 ~{{CS}}, 4 SCK, 5 SDI, 6 NC, 7 NC, 8 ~{{LDAC}}, 9 ~{{SHDN}}, 10 VB, 11 VrefB, 12 Vss, 13 VrefA, 14 VA
text: DAC; CNTRL

## MCP4922-EP
designator *  value MCP4922-EP  Reference: U
Dual 12-bit Digital to Analog Converter, SPI Interface, PDIP-14; ki_keywords: Dual DAC 1ch 12bit SPI; ki_fp_filters: DIP* PDIP* SO* SOIC* TSSOP*; Datasheet: http://ww1.microchip.com/downloads/en/devicedoc/21897a.pdf; Description_: Dual 12-bit Digital to Analog Converter, SPI Interface, PDIP-14
pins: 1 VDD, 2 NC, 3 ~{{CS}}, 4 SCK, 5 SDI, 6 NC, 7 NC, 8 ~{{LDAC}}, 9 ~{{SHDN}}, 10 VoutB, 11 VrefB, 12 AVSS, 13 VrefA, 14 VoutA

## MCP4922-ESL
designator *  value MCP4922-ESL  Reference: U
Dual 12-bit Digital to Analog Converter, SPI Interface, SOIC-14; ki_keywords: Dual DAC 1ch 12bit SPI; ki_fp_filters: DIP* PDIP* SO* SOIC* TSSOP*; Datasheet: http://ww1.microchip.com/downloads/en/devicedoc/21897a.pdf; Description_: Dual 12-bit Digital to Analog Converter, SPI Interface, SOIC-14
pins: 1 VDD, 2 NC, 3 ~{{CS}}, 4 SCK, 5 SDI, 6 NC, 7 NC, 8 ~{{LDAC}}, 9 ~{{SHDN}}, 10 VoutB, 11 VrefB, 12 AVSS, 13 VrefA, 14 VoutA

## MCP4922-EST
designator *  value MCP4922-EST  Reference: U
Dual 12-bit Digital to Analog Converter, SPI Interface, TSSOP-14; ki_keywords: Dual DAC 1ch 12bit SPI; ki_fp_filters: DIP* PDIP* SO* SOIC* TSSOP*; Datasheet: http://ww1.microchip.com/downloads/en/devicedoc/21897a.pdf; Description_: Dual 12-bit Digital to Analog Converter, SPI Interface, TSSOP-14
pins: 1 VDD, 2 NC, 3 ~{{CS}}, 4 SCK, 5 SDI, 6 NC, 7 NC, 8 ~{{LDAC}}, 9 ~{{SHDN}}, 10 VoutB, 11 VrefB, 12 AVSS, 13 VrefA, 14 VoutA

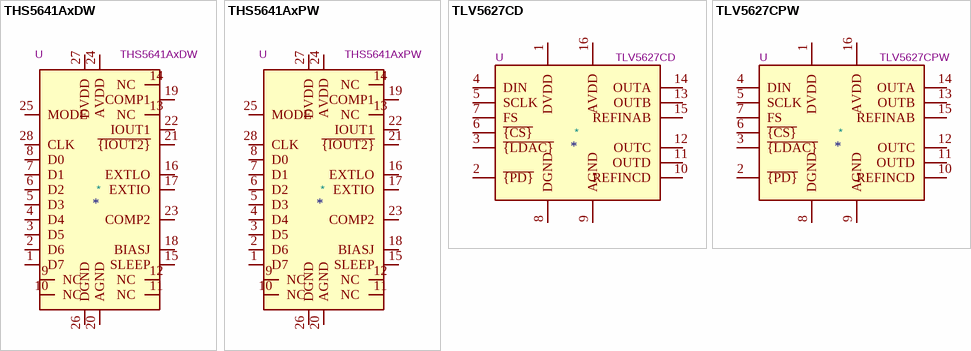
[diagram p5: symbols THS5641AxDW to TLV5627CPW]

## THS5641AxDW
designator *  value THS5641AxDW  Reference: U
8-Bit, 100 MSPS, CommsDAC, Parallel Current DAC, SOIC-28; ki_keywords: DAC IDAC; ki_fp_filters: SOIC*7.5x17.9mm*P1.27mm*; Footprint: Package_SO:SOIC-28W_7.5x17.9mm_P1.27mm; Datasheet: http://www.ti.com/lit/ds/symlink/ths5641a.pdf; Description_: 8-Bit, 100 MSPS, CommsDAC, Parallel Current DAC, SOIC-28
pins: 1 D7, 2 D6, 3 D5, 4 D4, 5 D3, 6 D2, 7 D1, 8 D0, 9 NC, 10 NC, 11 NC, 12 NC, 13 NC, 14 NC, 15 SLEEP, 16 EXTLO, 17 EXTIO, 18 BIASJ, 19 COMP1, 20 AGND, 21 ~{{IOUT2}}, 22 IOUT1, 23 COMP2, 24 AVDD, 25 MODE, 26 DGND, 27 DVDD, 28 CLK

## THS5641AxPW
designator *  value THS5641AxPW  Reference: U
8-Bit, 100 MSPS, CommsDAC, Parallel Current DAC, TSSOP-28; ki_keywords: DAC IDAC; ki_fp_filters: TSSOP*4.4x9.7mm*P0.65mm*; Footprint: Package_SO:TSSOP-28_4.4x9.7mm_P0.65mm; Datasheet: http://www.ti.com/lit/ds/symlink/ths5641a.pdf; Description_: 8-Bit, 100 MSPS, CommsDAC, Parallel Current DAC, TSSOP-28
pins: 1 D7, 2 D6, 3 D5, 4 D4, 5 D3, 6 D2, 7 D1, 8 D0, 9 NC, 10 NC, 11 NC, 12 NC, 13 NC, 14 NC, 15 SLEEP, 16 EXTLO, 17 EXTIO, 18 BIASJ, 19 COMP1, 20 AGND, 21 ~{{IOUT2}}, 22 IOUT1, 23 COMP2, 24 AVDD, 25 MODE, 26 DGND, 27 DVDD, 28 CLK

## TLV5627CD
designator *  value TLV5627CD  Reference: U
4-Channel DAC, 8bit, w/ Power Down, SOIC-16; ki_keywords: DAC 4CH 8bit; Datasheet: http://www.ti.com/lit/ds/symlink/tlv5627.pdf; Description_: 4-Channel DAC, 8bit, w/ Power Down, SOIC-16
pins: 1 DVDD, 2 ~{{PD}}, 3 ~{{LDAC}}, 4 DIN, 5 SCLK, 6 ~{{CS}}, 7 FS, 8 DGND, 9 AGND, 10 REFINCD, 11 OUTD, 12 OUTC, 13 OUTB, 14 OUTA, 15 REFINAB, 16 AVDD

## TLV5627CPW
designator *  value TLV5627CPW  Reference: U
4-Channel DAC, 8bit, w/ Power Down, TSSOP-16; ki_keywords: DAC 4CH 8bit; Datasheet: http://www.ti.com/lit/ds/symlink/tlv5627.pdf; Description_: 4-Channel DAC, 8bit, w/ Power Down, TSSOP-16
pins: 1 DVDD, 2 ~{{PD}}, 3 ~{{LDAC}}, 4 DIN, 5 SCLK, 6 ~{{CS}}, 7 FS, 8 DGND, 9 AGND, 10 REFINCD, 11 OUTD, 12 OUTC, 13 OUTB, 14 OUTA, 15 REFINAB, 16 AVDD